# EAGLE library part 74CBTLV3125 (library NXP)
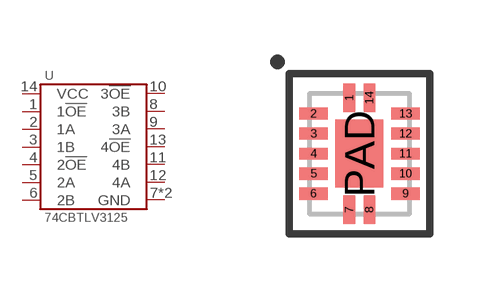
[diagram p8: symbol with the pads of VFQFN-14; footprint VFQFN-14]

Designator prefix U

## 74CBTLV3125BQ,115  [VFQFN-14]
1  1!OE
2  1A
3  1B
4  2!OE
5  2A
6  2B
7  GND
8  3B
9  3A
10  3!OE
11  4B
12  4A
13  4!OE
14  VCC
PAD  GND

## Footprint VFQFN-14 (pad centres in mm)
smd 0.3 x 0.7: 1 -0.25,1.4; 7 -0.25,-1.4; 8 0.25,-1.4; 14 0.25,1.4
smd 0.7 x 0.3: 2 -1.15,1; 3 -1.15,0.5; 4 -1.15,0; 5 -1.15,-0.5; 6 -1.15,-1; 9 1.15,-1; 10 1.15,-0.5; 11 1.15,0; 12 1.15,0.5; 13 1.15,1
smd 1.2 x 1.7: PAD 0,0